# Altium footprint library DM1092_R0M0E0.PcbLib: 22 footprints (part 2 of 2)
Each footprint in its own frame and in the unit in brackets; x right, y up, seen from the top. Pads: shape width x height; smd on the part's side, far side on the other; paste and mask are expansions set on the pad; w line width, h text height; cw(c..) or ccw(c..) is an arc to the next point about the centre after c.
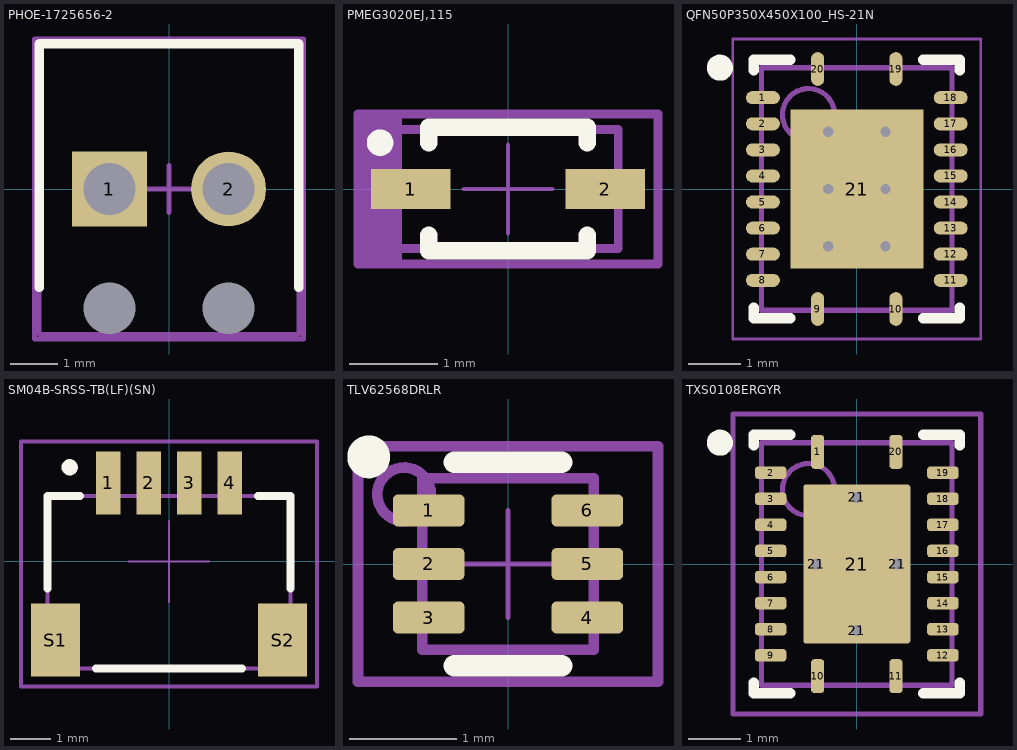
[diagram p1: the footprints below, top view; thin cyan lines are the x and y axes]

## PHOE-1725656-2 [mm] "Connector, 2-Leads, Body 6.2x5.4mm, Pitch 2.54mm"
height 8.5
pads (4):
  rect 1.6x1.6 hole 1.1: 1(-1.27,0)
  round 1.6 hole 1.1: 2(1.27,0)
  round 0 hole 1.1 unplated: MH1(-1.27,-2.54) MH2(1.27,-2.54)
Top Overlay:
  lines w0.2: -2.77,-2.1 -2.77,3.1 2.77,3.1 2.77,-2.1 ; 2.77,-2.1 2.77,-1.77 2.77,-2.1
Top Assembly:
  circle w0.1: c-1.27,0 r0.5
  lines w0.1: -2.87,-3.2 -2.87,3.2 2.87,3.2 2.87,-3.2 -2.87,-3.2
  text "'.Designator'" at 0,-0.033 h1
Assembly Notes:
  lines w0.1: -2.77,3.1 -2.77,-3.1 2.77,-3.1 2.77,3.1 ; -2.77,3.1 -2.77,3.1 ; -2.77,3.1 2.77,3.1 ; 2.77,3.1 2.77,3.1
Top 3D Body:
  lines w0.1: -2.77,-3.1 2.77,-3.1 2.77,3.1 -2.77,3.1 -2.77,-3.1
Top Courtyard:
  lines w0.05: -2.87,-3.2 -2.87,3.2 2.87,3.2 2.87,-3.2 -2.87,-3.2
  lines w0.1: -0.5,0 0.5,0 ; 0,-0.5 0,0.5
Top Component Outline (Mech31):
  lines w0.1: -2.87,-3.2 2.87,-3.2 2.87,3.2 -2.87,3.2 -2.87,-3.2
3D body "1725656.stp": height 9, standoff -3, extent -2.77,-3.1 2.77,3.1

## PMEG3020EJ,115 [mm]
pads (2):
  rect 0.9x0.45 smd: 1(-1.1,0) 2(1.1,0)
Top Overlay:
  circle w0.2: c-1.45,0.525 r0.05
  lines w0.2: -0.9,-0.525 -0.9,-0.7 0.9,-0.7 0.9,-0.525 ; -0.9,0.525 -0.9,0.7 0.9,0.7 0.9,0.525
Top Assembly:
  rectangle: -1.7,-0.85 -1.25,0.85
  lines w0.1: -1.25,-0.85 -1.25,0.85 -1.139,0.85 ; -1.7,-0.85 -1.7,0.85 1.7,0.85 1.7,-0.85 -1.7,-0.85
  text "'.Designator'" at 0,0.188 h1
Top Courtyard:
  lines w0.05: -0.5,0 0.5,0 ; 0,-0.5 0,0.5 ; -1.7,-0.85 -1.7,0.85 1.7,0.85 1.7,-0.85 -1.7,-0.85
Top Component Outline (Mech31):
  lines w0.1: -1.25,-0.675 1.25,-0.675 1.25,0.675 -1.25,0.675 -1.25,-0.675
3D body "SODFL250X80-2N.step": height 0.8, standoff 0, extent -1.25,-0.675 1.25,0.675

## QFN50P350X450X100_HS-21N [mm] "QFN, 20-Leads, Body 3.50x4.50mm, Pitch 1.50mm/0.50mm, Thermal Pad 2.55x3.05mm, IPC Medium Density"
height 1
pads (21):
  oval 0.65x0.25 smd: 1(-1.8,1.75) 2(-1.8,1.25) 3(-1.8,0.75) 4(-1.8,0.25) 5(-1.8,-0.25) 6(-1.8,-0.75) 7(-1.8,-1.25) 8(-1.8,-1.75) 11(1.8,-1.75) 12(1.8,-1.25) 13(1.8,-0.75) 14(1.8,-0.25) 15(1.8,0.25) 16(1.8,0.75) 17(1.8,1.25) 18(1.8,1.75)
  oval 0.25x0.65 smd: 9(-0.75,-2.3) 10(0.75,-2.3) 19(0.75,2.3) 20(-0.75,2.3)
  rect 2.55x3.05 smd: 21(0,0)
via -0.55,1.1 diameter 0.5 hole 0.2
via 0.55,1.1 diameter 0.5 hole 0.2
via -0.55,0 diameter 0.5 hole 0.2
via 0.55,0 diameter 0.5 hole 0.2
via -0.55,-1.1 diameter 0.5 hole 0.2
via 0.55,-1.1 diameter 0.5 hole 0.2
Top Overlay:
  circle w0.25: c-2.625,2.325 r0.125
  lines w0.2: -1.975,-2.275 -1.975,-2.475 -1.275,-2.475 ; -1.975,2.275 -1.975,2.475 -1.275,2.475 ; 1.275,-2.475 1.975,-2.475 1.975,-2.275 ; 1.275,2.475 1.975,2.475 1.975,2.275
Top Assembly:
  circle w0.1: c-0.925,1.425 r0.5
  lines w0.1: -1.825,-2.325 -1.825,2.325 1.825,2.325 1.825,-2.325 -1.825,-2.325
  text "'.Designator'" at -0.5,-0.5 h1
Top Courtyard:
  lines w0.05: -2.375,-2.875 -2.375,2.875 2.375,2.875 2.375,-2.875 -2.375,-2.875
  lines w0.1: -0.5,0 0.5,0 ; 0,-0.5 0,0.5
3D body "QFN50P350X450X100_HS-21N.step": height 1, standoff 0, extent -1.826,-2.326 1.826,2.326

## SM04B-SRSS-TB(LF)(SN) [mm] "Connector Header Surface Mount, Right Angle 4 position 0.039\" (1.00mm)"
height 2.9
pads (6):
  rect 0.6x1.55 smd: 1(-1.5,1.938) 2(-0.5,1.938) 3(0.5,1.938) 4(1.5,1.938)
  rect 1.2x1.8 smd: S1(-2.8,-1.937) S2(2.8,-1.937)
Top Overlay:
  circle w0.2: c-2.45,2.323 r0.1
  lines w0.2: -3,-0.662 -3,1.613 -2.2,1.613 ; -1.8,-2.637 1.8,-2.637 ; 2.2,1.613 3,1.613 3,-0.662
Top Assembly:
  lines w0.1: -3.65,-3.087 -3.65,2.963 3.65,2.963 3.65,-3.087 -3.65,-3.087
  text "'.Designator'" at 0,0.188 h1
Top Courtyard:
  lines w0.05: -1,0 0,0 ; 0,-1 0,0 ; 0,1 0,0 ; 1,0 0,0 ; -3.65,-3.087 3.65,-3.087 3.65,2.963 -3.65,2.963 -3.65,-3.087
Top Component Outline (Mech31):
  lines w0.1: -3,-2.637 3,-2.637 3,1.613 -3,1.613 -3,-2.637
3D body "SM04B-SRSS-TB(LF)(SN)--3DModel-STEP-56544.STEP": height 2.96, standoff 0, extent -3,-2.638 3,2.312

## TLV62568DRLR [mm] "SOT-563, SOT-666,  SOT-563-6"
height 0.6
pads (6):
  rrect33% 0.67x0.3 smd paste+0 mask+0.05: 1(-0.74,0.5) 2(-0.74,0) 3(-0.74,-0.5) 4(0.74,-0.5) 5(0.74,0) 6(0.74,0.5)
Top Overlay:
  circle w0.2: c-1.3,1 r0.1
  lines w0.2: -0.5,-0.95 0.5,-0.95 ; -0.5,0.95 0.5,0.95
Top Assembly:
  circle w0.1: c-0.97,0.65 r0.25
  lines w0.1: -1.4,-1.1 -1.4,1.1 1.4,1.1 1.4,-1.1 -1.4,-1.1
  text "'.Designator'" at 0,0 h1
Top Courtyard:
  lines w0.05: -0.5,0 0,0 ; 0,-0.5 0,0 ; 0,0.5 0,0 ; 0.5,0 0,0 ; 0,0 0,0 ; -1.4,-1.1 1.4,-1.1 1.4,1.1 -1.4,1.1 -1.4,-1.1
Top Component Outline (Mech31):
  lines w0.1: -0.8,-0.8 -0.8,0.8 0.8,0.8 0.8,-0.8 -0.8,-0.8
3D body "DRL0006A.stp": height 0.61, standoff 0.01, extent -0.8,-0.8 0.8,0.8

## TXS0108ERGYR [mm] "20-VQFN (3.5x4.5)"
height 1
pads (25):
  rrect50% 0.25x0.65 smd mask+0.07: 1(-0.75,2.15) 10(-0.75,-2.15) 11(0.75,-2.15) 20(0.75,2.15)
  rrect50% 0.6x0.24 smd mask+0.07: 2(-1.65,1.75) 3(-1.65,1.25) 4(-1.65,0.75) 5(-1.65,0.25) 6(-1.65,-0.25) 7(-1.65,-0.75) 8(-1.65,-1.25) 9(-1.65,-1.75) 12(1.65,-1.75) 13(1.65,-1.25) 14(1.65,-0.75) 15(1.65,-0.25) 16(1.65,0.25) 17(1.65,0.75) 18(1.65,1.25) 19(1.65,1.75)
  oval 0.406x0.406 hole 0.203: 21(-0.775,0) 21(0,-1.275) 21(0,1.275) 21(0.775,0)
  rrect5% 2.05x3.05 smd paste-3 mask+0.07: 21(0,0)
Top Overlay:
  circle w0.25: c-2.625,2.325 r0.125
  lines w0.2: -1.975,-2.275 -1.975,-2.475 -1.275,-2.475 ; -1.975,2.275 -1.975,2.475 -1.275,2.475 ; 1.275,-2.475 1.975,-2.475 1.975,-2.275 ; 1.275,2.475 1.975,2.475 1.975,2.275
Top Paste:
  rectangle: 0.1,0.105 1.02,1.435
  region: -0.1,1.435 -1.02,1.435 -1.02,0.105 -0.1,0.105
  rectangle: 0.1,-1.435 1.02,-0.105
  region: -0.1,-0.105 -1.02,-0.105 -1.02,-1.435 -0.1,-1.435
Top Assembly:
  circle w0.1: c-0.925,1.425 r0.5
  lines w0.1: -2.375,-2.875 -2.375,2.875 2.375,2.875 2.375,-2.875 -2.375,-2.875
Top 3D Body:
  text "'.Designator'" at 0,0.188 h1
Top Courtyard:
  lines w0.05: -0.5,0 0.5,0 ; 0,-0.5 0,0.5 ; -2.375,-2.875 -2.375,2.875 2.375,2.875 2.375,-2.875 -2.375,-2.875
Bottom Component Outline (Mech32):
  lines w0.1: -1.825,-2.325 1.825,-2.325 1.825,2.325 -1.825,2.325 -1.825,-2.325
3D body "QFN50P350X450X100_HS-21N.step": height 1, standoff 0, extent -1.826,-2.326 1.826,2.326